# EAGLE library part MAX17048X+ (library weather_station)
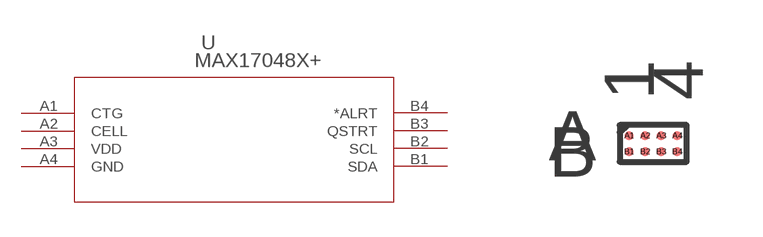
[diagram p14: symbol with the pads of 21-0555B_W80B1-1; footprint 21-0555B_W80B1-1]

Designator prefix U

## MAX17048X+ (MANUFACTURER_PART_NUMBER: max17048x+; VENDOR: MAXIM)  [21-0555B_W80B1-1]
A1  CTG  pas
A2  CELL  pas
A3  VDD  pwr
A4  GND  pwr
B1  SDA
B2  SCL  in
B3  QSTRT  in
B4  *ALRT  out

## Footprint 21-0555B_W80B1-1 (pad centres in mm)
smd 0.229 x 0.229: A1 -0.6,0.2; A2 -0.2,0.2; A3 0.2,0.2; A4 0.6,0.2; B1 -0.6,-0.2; B2 -0.2,-0.2; B3 0.2,-0.2; B4 0.6,-0.2